# EAGLE library part TXSAW433-SZ (library 000001)
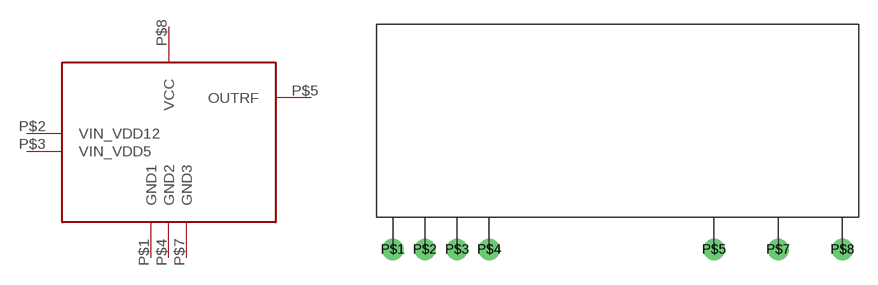
[diagram p32: symbol with the pads of 433SAW; footprint 433SAW]

Designator prefix -

## TXSAW433-SZ  [433SAW]
P$1  GND1  pwr
P$2  VIN_VDD12
P$3  VIN_VDD5
P$4  GND2  pwr
P$5  OUTRF
P$7  GND3  pwr
P$8  VCC  pwr

## Footprint 433SAW (pad centres in mm)
drill 0.5 pad 1.676 round: P$1 -16.51,0; P$2 -13.97,0; P$3 -11.43,0; P$4 -8.89,0; P$5 8.89,0; P$7 13.97,0; P$8 19.05,0